# EAGLE library part ES8388 (library ES8388_PCBArtists)
ES8388 PCBArtists Breakout Board ESP-ADF COMPATIBLE AUDIO CODEC FOR ESP32 Breakout Board ES8388 <https://pcbartists.com/es8388/> Special note about the "SPECIAL" package: This was SPECIALLY designed to be used with PCBArtists ES8388
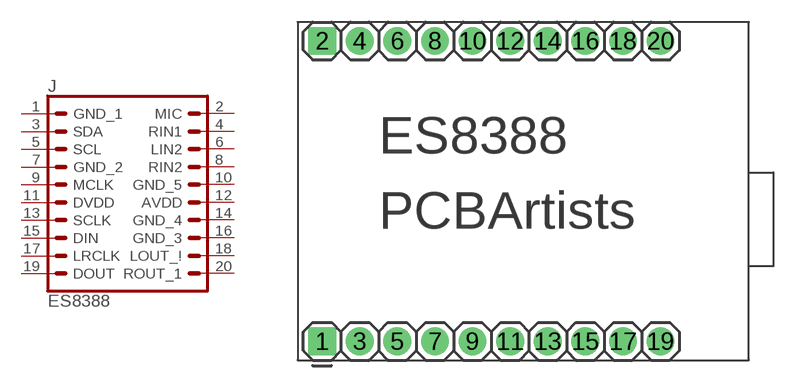
[diagram p0: symbol with the pads of ES8388; footprint ES8388]

Designator prefix J

## ES8388ES8388  [ES8388]
1  GND_1  pwr
2  MIC  in
3  SDA
4  RIN1  in
5  SCL
6  LIN2  in
7  GND_2  pwr
8  RIN2  in
9  MCLK  in
10  GND_5  pwr
11  DVDD  pwr
12  AVDD  pwr
13  SCLK  in
14  GND_4  pwr
15  DIN  in
16  GND_3  pwr
17  LRCLK  in
18  LOUT_!  out
19  DOUT  out
20  ROUT_1  out

## Footprint ES8388 (pad centres in mm)
ES8388 PCBArtists Specifications: Pin count:20 Pin pitch:0.1" Example device(s): ES8388
drill 1.016 pad 1.88 square: 1 0,0; 2 0,20.32
drill 1.016 pad 1.88: 3 2.54,0; 4 2.54,20.32; 5 5.08,0; 6 5.08,20.32; 7 7.62,0; 8 7.62,20.32; 9 10.16,0; 10 10.16,20.32; 11 12.7,0; 12 12.7,20.32; 13 15.24,0; 14 15.24,20.32; 15 17.78,0; 16 17.78,20.32; 17 20.32,0; 18 20.32,20.32; 19 22.86,0; 20 22.86,20.32